# Altium schematic symbol library IRLML2502PBF.SchLib: 1 symbol
Pins are listed as number, name and electrical type; pins without a type are passive.

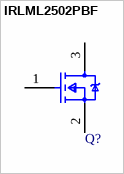
[diagram p0: symbol IRLML2502PBF]

## IRLML2502PBF
designator Q?  (value not drawn)
pins: 1 G, 2 S, 3 D